# Altium footprint library GRM188R61E106KA73D.PcbLib: 3 footprints
Each footprint in its own frame and in the unit in brackets; x right, y up, seen from the top. Pads: shape width x height; smd on the part's side, far side on the other; paste and mask are expansions set on the pad; w line width, h text height; cw(c..) or ccw(c..) is an arc to the next point about the centre after c.
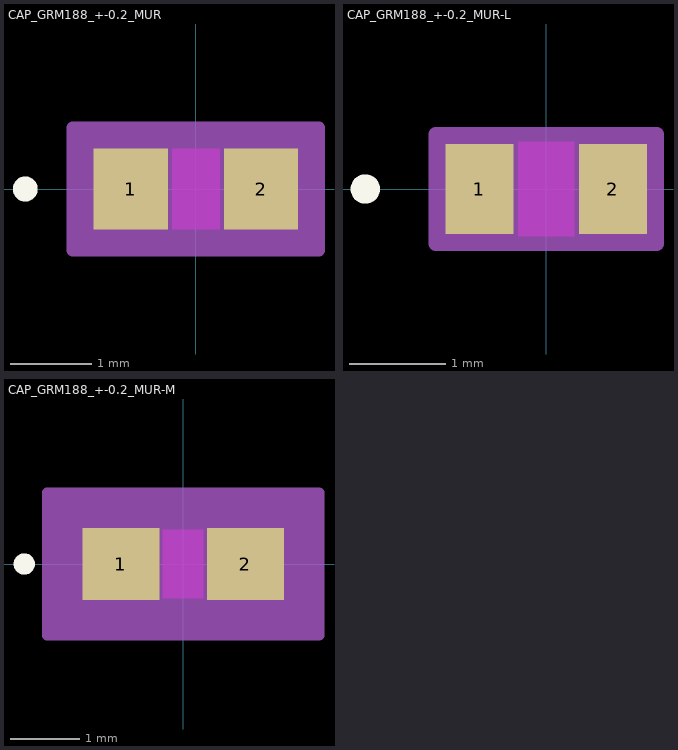
[diagram p0: the footprints below, top view; thin cyan lines are the x and y axes]

## CAP_GRM188_+-0.2_MUR [mil]
pads (2):
  rect 35.78x39 smd paste+0 mask+0: 1(-31.39,0) 2(31.39,0)
Top Layer keep-out:
  region: -11.5,-17.5 -11.5,17.5 11.5,17.5 11.5,-17.5
Top Overlay:
  circle w6: c-82.28,0 r3
  text ".Designator" at -137.5,-25 h50
Keep-Out Layer:
  region: -11.5,-19.5 -11.5,19.5 11.5,19.5 11.5,-19.5
Mechanical 13:
  circle w1: c-26.39,0 r3
  lines w1: -35.5,-19.5 -35.5,19.5 ; -35.5,-19.5 -13.5,-19.5 -13.5,19.5 -35.5,19.5 ; -35.5,-19.5 35.5,-19.5 ; -35.5,-19.5 -35.5,19.5 ; -35.5,19.5 35.5,19.5 ; 35.5,-19.5 13.5,-19.5 13.5,19.5 35.5,19.5 ; 35.5,-19.5 35.5,19.5 ; 35.5,-19.5 35.5,19.5
  text ".Designator" at -137.5,-25 h50
Mechanical 15:
  region: 59.28,-29.5 -59.28,-29.5 -59.28,29.5 59.28,29.5
  lines w6: -59.28,-29.5 -59.28,29.5 59.28,29.5 59.28,-29.5 -59.28,-29.5
3D body "CAP_GRM188_+-02_MUR.step": height 39.02, standoff 0, extent -35.51,-19.49 35.51,19.49

## CAP_GRM188_+-0.2_MUR-L [mil]
pads (2):
  rect 27.91x37.03 smd paste+0 mask+0: 1(-27.45,0) 2(27.45,0)
Top Layer keep-out:
  region: -11.5,-17.5 -11.5,17.5 11.5,17.5 11.5,-17.5
Top Overlay:
  circle w6: c-74.41,0 r3
  text ".Designator" at -137.5,-25 h50
Keep-Out Layer:
  region: -11.5,-19.5 -11.5,19.5 11.5,19.5 11.5,-19.5
Mechanical 13:
  circle w1: c-22.45,0 r3
  lines w1: -35.5,-19.5 -35.5,19.5 ; -35.5,-19.5 -13.5,-19.5 -13.5,19.5 -35.5,19.5 ; -35.5,-19.5 35.5,-19.5 ; -35.5,-19.5 -35.5,19.5 ; -35.5,19.5 35.5,19.5 ; 35.5,-19.5 13.5,-19.5 13.5,19.5 35.5,19.5 ; 35.5,-19.5 35.5,19.5 ; 35.5,-19.5 35.5,19.5
  text ".Designator" at -137.5,-25 h50
Mechanical 15:
  region: 45.41,-22.52 -45.41,-22.52 -45.41,22.52 45.41,22.52
  lines w6: -45.41,-22.52 -45.41,22.52 45.41,22.52 45.41,-22.52 -45.41,-22.52
3D body: height 10, standoff 0, extent 0,0 10,10

## CAP_GRM188_+-0.2_MUR-M [mil]
pads (2):
  rect 43.65x40.97 smd paste+0 mask+0: 1(-35.33,0) 2(35.33,0)
Top Layer keep-out:
  region: -11.5,-17.5 -11.5,17.5 11.5,17.5 11.5,-17.5
Top Overlay:
  circle w6: c-90.15,0 r3
  text ".Designator" at -137.5,-25 h50
Keep-Out Layer:
  region: -11.5,-19.5 -11.5,19.5 11.5,19.5 11.5,-19.5
Mechanical 13:
  circle w1: c-30.33,0 r3
  lines w1: -35.5,-19.5 -35.5,19.5 ; -35.5,-19.5 -13.5,-19.5 -13.5,19.5 -35.5,19.5 ; -35.5,-19.5 35.5,-19.5 ; -35.5,-19.5 -35.5,19.5 ; -35.5,19.5 35.5,19.5 ; 35.5,-19.5 13.5,-19.5 13.5,19.5 35.5,19.5 ; 35.5,-19.5 35.5,19.5 ; 35.5,-19.5 35.5,19.5
  text ".Designator" at -137.5,-25 h50
Mechanical 15:
  region: 77.15,-40.48 -77.15,-40.48 -77.15,40.48 77.15,40.48
  lines w6: -77.15,-40.48 -77.15,40.48 77.15,40.48 77.15,-40.48 -77.15,-40.48
3D body: height 10, standoff 0, extent 0,0 10,10